# Altium footprint library VTEC-logo.PcbLib: 6 footprints
Each footprint in its own frame and in the unit in brackets; x right, y up, seen from the top. Pads: shape width x height; smd on the part's side, far side on the other; paste and mask are expansions set on the pad; w line width, h text height; cw(c..) or ccw(c..) is an arc to the next point about the centre after c.
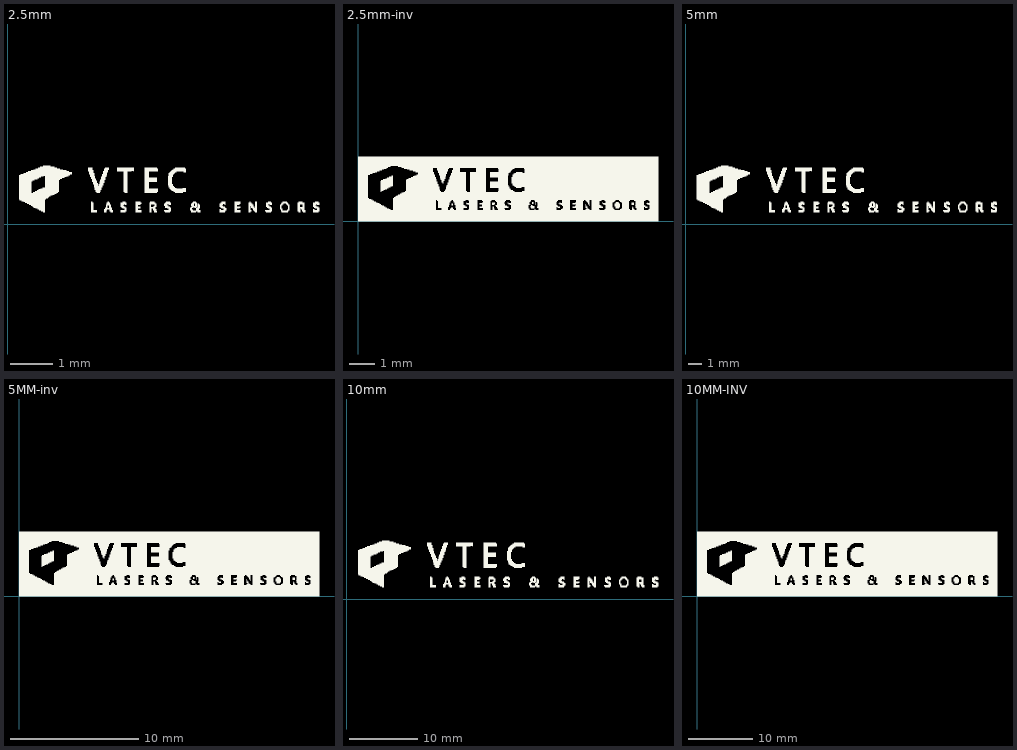
[diagram p0: the footprints below, top view; thin cyan lines are the x and y axes]

## 2.5mm [mm] "2.5mm height"
Top Overlay:
  drawing of 19 lines, arcs and shapes, not listed

## 2.5mm-inv [mm] "2.5mm height, inverted graphics"
Top Overlay:
  region: 4 vertices and 19 holes, not listed, extent 0,0 11.689,2.5
  region: 5.27,0.642 5.236,0.642 5.236,0.709 5.338,0.709 5.338,0.676 5.304,0.676 5.304,0.642
  region: 10.034,0.676 10.034,0.709 10.068,0.709 10.068,0.743 10.135,0.743 10.135,0.709 10.169,0.709 10.169,0.676 10.203,0.676 10.203,0.541 10.169,0.541 10.169,0.507 10.034,0.507 10.034,0.574 10,0.574 10,0.676
  region: 3.649,0.676 3.682,0.676 3.682,0.608 3.649,0.608 3.649,0.642
  region: 6.757,0.608 6.791,0.608 6.791,0.574 6.858,0.574 6.858,0.507 6.757,0.507 6.757,0.541 6.723,0.541 6.723,0.574 6.757,0.574
  region: 1.284,1.351 1.25,1.351 1.25,1.318 1.182,1.318 1.182,1.284 1.115,1.284 1.115,1.25 1.047,1.25 1.047,1.216 0.98,1.216 0.98,1.182 0.912,1.182 0.912,1.149 0.878,1.149 0.878,1.554 0.912,1.554 0.912,1.588 0.98,1.588 0.98,1.622 1.081,1.622 1.081,1.655 1.149,1.655 1.149,1.689 1.216,1.689 1.216,1.723 1.318,1.723 1.318,1.757 1.351,1.757 1.351,1.351 1.318,1.351
  region: 10.676,0.709 10.743,0.709 10.743,0.642 10.676,0.642 10.676,0.676
  region: 6.791,0.676 6.791,0.743 6.824,0.743 6.824,0.676

## 5mm [mm] "5mm height"
Top Overlay:
  drawing of 19 lines, arcs and shapes, not listed

## 5MM-inv [mm] "5mm height, inverted graphics"
Top Overlay:
  region: 13.581,1.351 13.581,1.486 13.649,1.486 13.649,1.351
  region: 21.351,1.419 21.486,1.419 21.486,1.284 21.351,1.284 21.351,1.351
  region: 2.568,2.703 2.5,2.703 2.5,2.635 2.365,2.635 2.365,2.568 2.23,2.568 2.23,2.5 2.095,2.5 2.095,2.432 1.959,2.432 1.959,2.365 1.824,2.365 1.824,2.297 1.757,2.297 1.757,3.108 1.824,3.108 1.824,3.176 1.959,3.176 1.959,3.243 2.162,3.243 2.162,3.311 2.297,3.311 2.297,3.378 2.432,3.378 2.432,3.446 2.635,3.446 2.635,3.514 2.703,3.514 2.703,2.703 2.635,2.703
  region: 13.514,1.216 13.581,1.216 13.581,1.149 13.716,1.149 13.716,1.014 13.514,1.014 13.514,1.081 13.446,1.081 13.446,1.149 13.514,1.149
  region: 7.297,1.351 7.365,1.351 7.365,1.216 7.297,1.216 7.297,1.284
  region: 20.068,1.351 20.068,1.419 20.135,1.419 20.135,1.486 20.27,1.486 20.27,1.419 20.338,1.419 20.338,1.351 20.405,1.351 20.405,1.081 20.338,1.081 20.338,1.014 20.068,1.014 20.068,1.149 20,1.149 20,1.351
  region: 10.541,1.284 10.473,1.284 10.473,1.419 10.676,1.419 10.676,1.351 10.608,1.351 10.608,1.284
  region: 4 vertices and 19 holes, not listed, extent 0,0 23.378,5

## 10mm [mm] "10mm hieght"
Top Overlay:
  drawing of 19 lines, arcs and shapes, not listed

## 10MM-INV [mm] "10mm height, inverted graphics"
Top Overlay:
  region: 27.162,2.703 27.162,2.973 27.297,2.973 27.297,2.703
  region: 42.703,2.838 42.973,2.838 42.973,2.568 42.703,2.568 42.703,2.703
  region: 5.135,5.405 5,5.405 5,5.27 4.73,5.27 4.73,5.135 4.459,5.135 4.459,5 4.189,5 4.189,4.865 3.919,4.865 3.919,4.73 3.649,4.73 3.649,4.595 3.514,4.595 3.514,6.216 3.649,6.216 3.649,6.351 3.919,6.351 3.919,6.486 4.324,6.486 4.324,6.622 4.595,6.622 4.595,6.757 4.865,6.757 4.865,6.892 5.27,6.892 5.27,7.027 5.405,7.027 5.405,5.405 5.27,5.405
  region: 27.027,2.432 27.162,2.432 27.162,2.297 27.432,2.297 27.432,2.027 27.027,2.027 27.027,2.162 26.892,2.162 26.892,2.297 27.027,2.297
  region: 14.595,2.703 14.73,2.703 14.73,2.432 14.595,2.432 14.595,2.568
  region: 40.135,2.703 40.135,2.838 40.27,2.838 40.27,2.973 40.541,2.973 40.541,2.838 40.676,2.838 40.676,2.703 40.811,2.703 40.811,2.162 40.676,2.162 40.676,2.027 40.135,2.027 40.135,2.297 40,2.297 40,2.703
  region: 21.081,2.568 20.946,2.568 20.946,2.838 21.351,2.838 21.351,2.703 21.216,2.703 21.216,2.568
  region: 4 vertices and 19 holes, not listed, extent 0,0 46.757,10